# Altium footprint library mpu6050.PcbLib: 1 footprints
Each footprint in its own frame and in the unit in brackets; x right, y up, seen from the top. Pads: shape width x height; smd on the part's side, far side on the other; paste and mask are expansions set on the pad; w line width, h text height; cw(c..) or ccw(c..) is an arc to the next point about the centre after c.
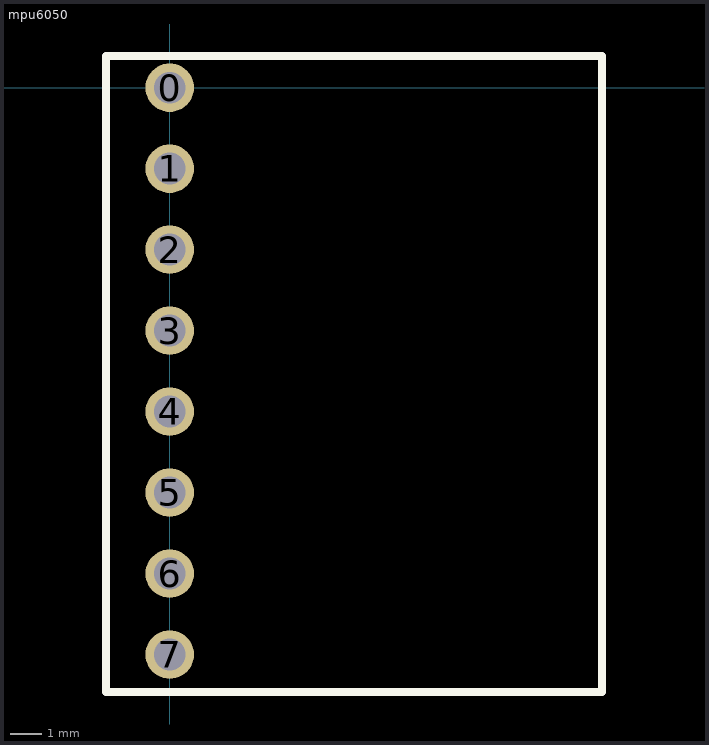
[diagram p0: the footprint, top view; thin cyan lines are the x and y axes]

## mpu6050 [mil]
pads (8):
  round 60 hole 39.37: 0(0,0) 1(0,-100) 2(0,-200) 3(0,-300) 4(0,-400) 5(0,-500) 6(0,-600) 7(0,-700)
Top Overlay:
  lines w10: -78.74,-746.46 -78.74,39.37 533.86,39.37 533.86,-746.46 -78.74,-746.46
3D body "MPU 6050 IMU.STEP": height 155.23, standoff -284.77, extent -95.61,-760.03 529.39,70.97